# Altium integrated library MiscParts.IntLib: 3 symbols
Pins are listed as number, name and electrical type; pins without a type are passive.

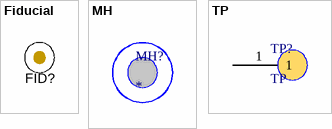
[diagram p0: symbols Fiducial to TP]

## Fiducial
designator FID?  (value not drawn)
Fiducial mark.  There is nothing to buy or mount.; SymbolCreator: codlsc; SymbolVersion: 2009-11-4; CompType: Fiducial; PackageReference: N/A; ClassName: FiducialMark; Manufacturer: N/A; PartNumber: N/A; MountType: N/A; Publisher: Texas Instruments; LatestRevisionDate: 2014-10-27; LatestRevisionNote: Added Alternate PartNumber and Alternate Manufacturer parameters to appropriate components.
footprint FID10-20 (Fiducial mark.  There is nothing to buy or mount.)

## MH
designator MH?
安装孔-附加安装铜柱信息
footprint M2.5
footprint M4

## TP
designator TP?
测试点
footprint TP1.4mm
pins: 1